# EAGLE library part BALANCER_6CELL (library custom-connectors)
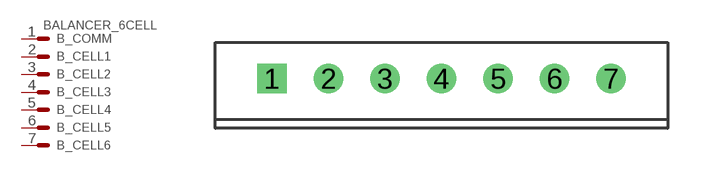
[diagram p15: symbol with the pads of B7B_EH_A_7POS; footprint B7B_EH_A_7POS]

Designator prefix B; gates _COMM=MV _CELL1=M _CELL2=M _CELL3=M _CELL4=M _CELL5=M _CELL6=M

## BALANCER_6CELL  [B7B_EH_A_7POS]
1  _COMM:S  pas
2  _CELL1:S  pas
3  _CELL2:S  pas
4  _CELL3:S  pas
5  _CELL4:S  pas
6  _CELL5:S  pas
7  _CELL6:S  pas

## Footprint B7B_EH_A_7POS (pad centres in mm)
drill 0.8 square: 1 -7.5,0
drill 0.8: 2 -5,0; 3 -2.5,0; 4 0,0; 5 2.5,0; 6 5,0; 7 7.5,0